# EAGLE library part ES8388 (library ES8388)
Low Power Stereo Audio CODEC With Headphone Amplifier Source: Datasheet <http://www.everest-semi.com/pdf/ES8388 DS.pdf>
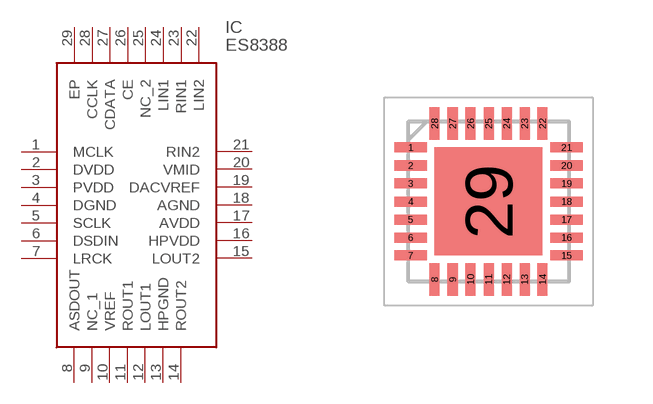
[diagram p0: symbol with the pads of QFN45P400X400X90-29N; footprint QFN45P400X400X90-29N]

Designator prefix IC

## ES8388 (Arrow_Part_Number: ES8388; Description: Low Power Stereo Audio CODEC With Headphone Amplifier; Height: 0.9mm; Manufacturer_Name: Everest; Manufacturer_Part_Number: ES8388)  [QFN45P400X400X90-29N]
1  MCLK
2  DVDD
3  PVDD
4  DGND
5  SCLK
6  DSDIN
7  LRCK
8  ASDOUT
9  NC_1
10  VREF
11  ROUT1
12  LOUT1
13  HPGND
14  ROUT2
15  LOUT2
16  HPVDD
17  AVDD
18  AGND
19  DACVREF
20  VMID
21  RIN2
22  LIN2
23  RIN1
24  LIN1
25  NC_2
26  CE
27  CDATA
28  CCLK
29  EP

## Footprint QFN45P400X400X90-29N (pad centres in mm)
ES8388
smd 0.8 x 0.25: 1 -1.95,1.35; 2 -1.95,0.9; 3 -1.95,0.45; 4 -1.95,0; 5 -1.95,-0.45; 6 -1.95,-0.9; 7 -1.95,-1.35; 15 1.95,-1.35; 16 1.95,-0.9; 17 1.95,-0.45; 18 1.95,0; 19 1.95,0.45; 20 1.95,0.9; 21 1.95,1.35
smd 0.25 x 0.8: 8 -1.35,-1.95; 9 -0.9,-1.95; 10 -0.45,-1.95; 11 0,-1.95; 12 0.45,-1.95; 13 0.9,-1.95; 14 1.35,-1.95; 22 1.35,1.95; 23 0.9,1.95; 24 0.45,1.95; 25 0,1.95; 26 -0.45,1.95; 27 -0.9,1.95; 28 -1.35,1.95
smd 2.7 x 2.7: 29 0,0